# Altium integrated library WS-DITU 2.54 mm piano type compact THT Dip Switch with flat actuator.IntLib: 9 symbols
Pins are listed as number, name and electrical type; pins without a type are passive.

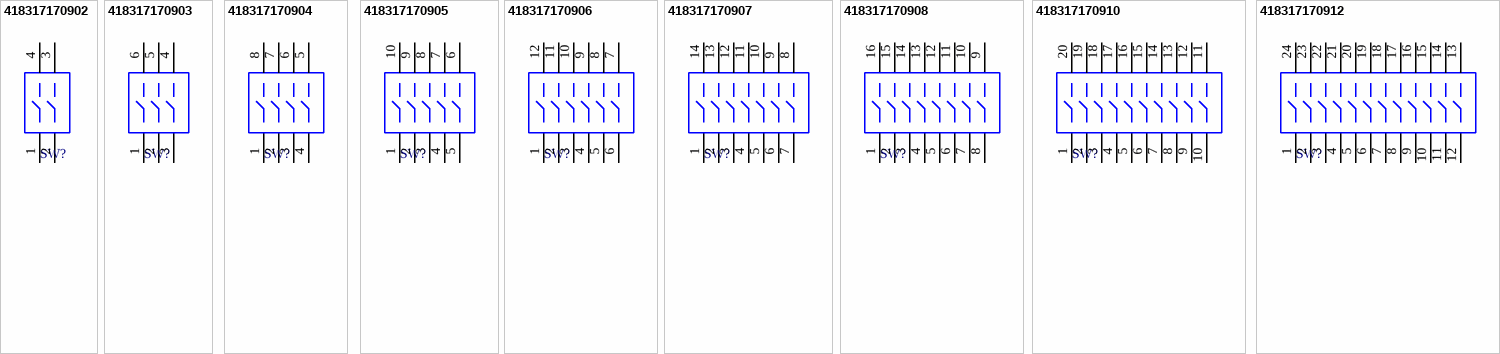
[diagram p0: symbols 418317170902 to 418317170912]

## 418317170902
designator SW?
WS-DITU 2.54 mm piano type compact THT Dip Switch with flat actuator; PartNumber: 418317170902; NoPins: 04; PackageReference: 418317170902; ComponentLink1Description: Manufacturer URL; ComponentLink1URL: http://www.we-online.com; ComponentLink2Description: Datasheet; ComponentLink2URL: http://katalog.we-online.de/em/datasheet/4183171709xx.pdf
footprint 418317170902 (02p, 2.54mm Pitch, Piano, Box Type, THT, flat Actuator, black, without Tape, Tube)
pins: 1, 2, 3, 4

## 418317170903
designator SW?
WS-DITU 2.54 mm piano type compact THT Dip Switch with flat actuator; PartNumber: 418317170903; NoPins: 6; PackageReference: 418317170903; ComponentLink1Description: Manufacturer URL; ComponentLink1URL: http://www.we-online.com; ComponentLink2Description: Datasheet; ComponentLink2URL: http://katalog.we-online.de/em/datasheet/4183171709xx.pdf
footprint 418317170903 (03p, 2.54mm Pitch, Piano, Box Type, THT, flat Actuator, black, without Tape, Tube)
pins: 1, 2, 3, 4, 5, 6

## 418317170904
designator SW?
WS-DITU 2.54 mm piano type compact THT Dip Switch with flat actuator; PartNumber: 418317170904; NoPins: 8; PackageReference: 418317170904; ComponentLink1Description: Manufacturer URL; ComponentLink1URL: http://www.we-online.com; ComponentLink2Description: Datasheet; ComponentLink2URL: http://katalog.we-online.de/em/datasheet/4183171709xx.pdf
footprint 418317170904 (04p, 2.54mm Pitch, Piano, Box Type, THT, flat Actuator, black, without Tape, Tube)
pins: 1, 2, 3, 4, 5, 6, 7, 8

## 418317170905
designator SW?
WS-DITU 2.54 mm piano type compact THT Dip Switch with flat actuator; PartNumber: 418317170905; NoPins: 10; PackageReference: 418317170905; ComponentLink1Description: Manufacturer URL; ComponentLink1URL: http://www.we-online.com; ComponentLink2Description: Datasheet; ComponentLink2URL: http://katalog.we-online.de/em/datasheet/4183171709xx.pdf
footprint 418317170905 (05p, 2.54mm Pitch, Piano, Box Type, THT, flat Actuator, black, without Tape, Tube)
pins: 1, 2, 3, 4, 5, 6, 7, 8, 9, 10

## 418317170906
designator SW?
WS-DITU 2.54 mm piano type compact THT Dip Switch with flat actuator; PartNumber: 418317170906; NoPins: 12; PackageReference: 418317170906; ComponentLink1Description: Manufacturer URL; ComponentLink1URL: http://www.we-online.com; ComponentLink2Description: Datasheet; ComponentLink2URL: http://katalog.we-online.de/em/datasheet/4183171709xx.pdf
footprint 418317170906 (06p, 2.54mm Pitch, Piano, Box Type, THT, flat Actuator, black, without Tape, Tube)
pins: 1, 2, 3, 4, 5, 6, 7, 8, 9, 10, 11, 12

## 418317170907
designator SW?
WS-DITU 2.54 mm piano type compact THT Dip Switch with flat actuator; PartNumber: 418317170907; NoPins: 14; PackageReference: 418317170907; ComponentLink1Description: Manufacturer URL; ComponentLink1URL: http://www.we-online.com; ComponentLink2Description: Datasheet; ComponentLink2URL: http://katalog.we-online.de/em/datasheet/4183171709xx.pdf
footprint 418317170907 (07p, 2.54mm Pitch, Piano, Box Type, THT, flat Actuator, black, without Tape, Tube)
pins: 1, 2, 3, 4, 5, 6, 7, 8, 9, 10, 11, 12, 13, 14

## 418317170908
designator SW?
WS-DITU 2.54 mm piano type compact THT Dip Switch with flat actuator; PartNumber: 418317170908; NoPins: 16; PackageReference: 418317170908; ComponentLink1Description: Manufacturer URL; ComponentLink1URL: http://www.we-online.com; ComponentLink2Description: Datasheet; ComponentLink2URL: http://katalog.we-online.de/em/datasheet/4183171709xx.pdf
footprint 418317170908 (08p, 2.54mm Pitch, Piano, Box Type, THT, flat Actuator, black, without Tape, Tube)
pins: 1, 2, 3, 4, 5, 6, 7, 8, 9, 10, 11, 12, 13, 14, 15, 16

## 418317170910
designator SW?
WS-DITU 2.54 mm piano type compact THT Dip Switch with flat actuator; PartNumber: 418317170910; NoPins: 20; PackageReference: 418317170910; ComponentLink1Description: Manufacturer URL; ComponentLink1URL: http://www.we-online.com; ComponentLink2Description: Datasheet; ComponentLink2URL: http://katalog.we-online.de/em/datasheet/4183171709xx.pdf
footprint 418317170910 (10p, 2.54mm Pitch, Piano, Box Type, THT, flat Actuator, black, without Tape, Tube)
pins: 1, 2, 3, 4, 5, 6, 7, 8, 9, 10, 11, 12, 13, 14, 15, 16, 17, 18, 19, 20

## 418317170912
designator SW?
WS-DITU 2.54 mm piano type compact THT Dip Switch with flat actuator; PartNumber: 418317170912; NoPins: 24; PackageReference: 418317170912; ComponentLink1Description: Manufacturer URL; ComponentLink1URL: http://www.we-online.com; ComponentLink2Description: Datasheet; ComponentLink2URL: http://katalog.we-online.de/em/datasheet/4183171709xx.pdf
footprint 418317170912 (12p, 2.54mm Pitch, Piano, Box Type, THT, flat Actuator, black, without Tape, Tube)
pins: 1, 2, 3, 4, 5, 6, 7, 8, 9, 10, 11, 12, 13, 14, 15, 16, 17, 18, 19, 20, 21, 22, 23, 24